# Altium footprint library S100 PCBLib.PcbLib: 16 footprints
Each footprint in its own frame and in the unit in brackets; x right, y up, seen from the top. Pads: shape width x height; smd on the part's side, far side on the other; paste and mask are expansions set on the pad; w line width, h text height; cw(c..) or ccw(c..) is an arc to the next point about the centre after c.
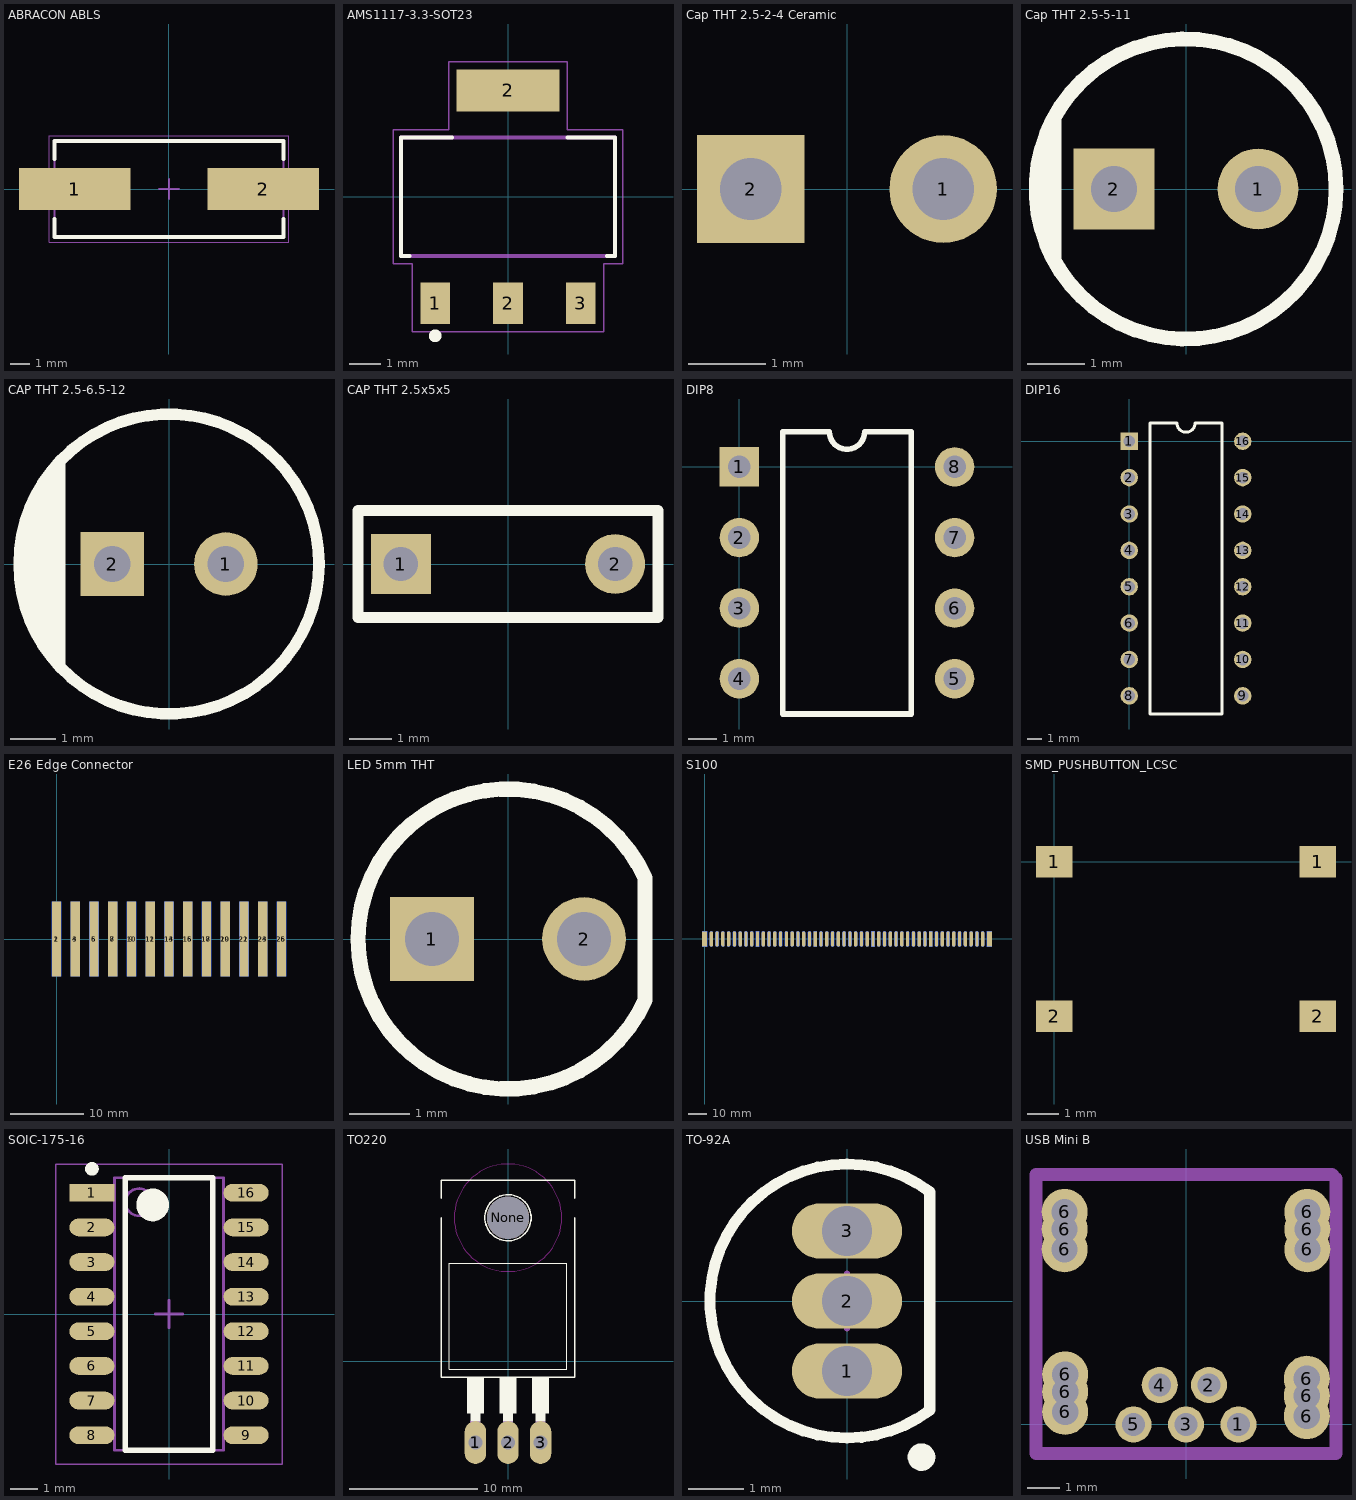
[diagram p0: the footprints below, top view; thin cyan lines are the x and y axes]

## ABRACON ABLS [mm] "Crystal, 2-Leads, Body 4.70x11.40mm, Pitch 8.80mm, IPC Medium Density"
height 4.2
pads (2):
  rect 5.6x2.1 smd: 1(-4.75,0) 2(4.75,0)
Top Overlay:
  lines w0.2: -5.775,-1.5 -5.775,-2.425 5.775,-2.425 5.775,-1.5 ; -5.775,1.5 -5.775,2.425 5.775,2.425 5.775,1.5
Mechanical 13:
  lines w0.1: -5.775,-2.425 -5.775,2.425 5.775,2.425 5.775,-2.425 -5.775,-2.425
Mechanical 15:
  lines w0.05: -6.025,-2.675 -6.025,2.675 6.025,2.675 6.025,-2.675 -6.025,-2.675
  lines w0.1: -0.5,0 0.5,0 ; 0,-0.5 0,0.5
3D body "HC49US SMT Crystal.STEP": height 4.2, standoff 0, extent -6.35,-2.35 6.35,2.35

## AMS1117-3.3-SOT23 [mm]
pads (4):
  rect 0.93x1.31 smd: 1(-2.29,-3.345) 2(0,-3.345) 3(2.29,-3.345)
  rect 3.24x1.31 smd: 2(0,3.345)
Top Overlay:
  circle w0.2: c-2.29,-4.373 r0.1
  lines w0.127: -3.1,-1.86 -3.36,-1.86 -3.36,1.86 -1.76,1.86 ; 1.87,1.86 3.36,1.86 3.36,-1.86 3.11,-1.86
Mechanical 4:
  lines w0.127: -3.36,-1.86 3.36,-1.86 ; -3.36,-1.86 -3.36,1.86 ; -3.36,-1.86 3.36,-1.86 ; -3.36,-1.86 -3.36,1.86 ; -3.36,1.86 3.36,1.86 ; -3.36,1.86 3.36,1.86 ; 3.36,-1.86 3.36,1.86 ; 3.36,-1.86 3.36,1.86
Mechanical 16:
  lines w0.05: -3.61,-2.11 -3.01,-2.11 -3.01,-4.25 3.01,-4.25 3.01,-2.11 3.61,-2.11 3.61,2.11 1.87,2.11 1.87,4.25 -1.87,4.25 -1.87,2.11 -3.61,2.11 -3.61,-2.11

## Cap THT 2.5-2-4 Ceramic [mm]
height 4
pads (2):
  round 1.4 hole 0.8: 1(1.25,0)
  rect 1.4x1.4 hole 0.8: 2(-1.25,0)

## Cap THT 2.5-5-11 [mm] "Capacitor 5mm Radius x 2.5mm lead spacing 11.5mm Height"
height 11.5
pads (2):
  round 1.4 hole 0.8: 1(1.25,0)
  rect 1.4x1.4 hole 0.8: 2(-1.25,0)
Top Overlay:
  circle w0.254: c0,0 r2.6
  region: -2.159,1.333 -2.159,-1.355 -2.413,-1.016 -2.54,0.762
3D body "cpol-v_p2-5_d6-5_h11-5.stp": height 11.51, standoff -3.35, extent -3.255,-3.247 3.25,3.247

## CAP THT 2.5-6.5-12 [mm]
pads (2):
  round 1.4 hole 0.8: 1(1.25,0)
  rect 1.4x1.4 hole 0.8: 2(-1.25,0)
Top Overlay:
  circle w0.254: c0,0 r3.3
  region: -2.032,2.54
  region: -2.286,2.413 -2.286,-2.413 -2.921,-1.778 -2.921,-1.651 -3.048,-1.524 -3.048,-0.889 -3.302,-0.635 -3.302,0.889 -3.048,1.143
3D body "cpol-v_p2-5_d6-5_h11-5.stp": height 11.51, standoff -3.35, extent -3.255,-3.247 3.25,3.247

## CAP THT 2.5x5x5 [mm]
pads (2):
  rect 1.4x1.4 hole 0.8: 1(-2.5,0)
  round 1.4 hole 0.8: 2(2.5,0)
Top Overlay:
  lines w0.254: -3.5,-1.25 3.5,-1.25 3.5,1.25 -3.5,1.25 -3.5,-1.25
3D body: height 6.5, standoff 0.5, extent -3.556,-1.27 3.429,1.27

## DIP8 [mm]
pads (8):
  rect 1.4x1.4 hole 0.8: 1(0,0)
  round 1.4 hole 0.8: 2(0,-2.5) 3(0,-5) 4(0,-7.5) 5(7.62,-7.5) 6(7.62,-5) 7(7.62,-2.5) 8(7.62,0)
Top Overlay:
  lines w0.2: 1.535,-8.75 6.085,-8.75 6.085,1.25 4.435,1.25 cw(c3.81,1.25) 3.185,1.25 1.535,1.25 1.535,-8.75

## DIP16 [mm]
pads (16):
  rect 1.2x1.2 hole 0.8: 1(0,0)
  round 1.2 hole 0.8: 2(0,-2.5) 3(0,-5) 4(0,-7.5) 5(0,-10) 6(0,-12.5) 7(0,-15) 8(0,-17.5) 9(7.8,-17.5) 10(7.8,-15) 11(7.8,-12.5) 12(7.8,-10) 13(7.8,-7.5) 14(7.8,-5) 15(7.8,-2.5) 16(7.8,0)
Top Overlay:
  lines w0.2: 1.435,-18.75 1.435,1.25 3.275,1.25 ccw(c3.9,1.25) 4.525,1.25 6.365,1.25 6.365,-18.75 1.435,-18.75

## E26 Edge Connector [mil] "26 Pin Edge Connector"
pads (26):
  rect 50x400 smd: 1(0,0) 3(100,0) 5(200,0) 7(300,0) 9(400,0) 11(500,0) 13(600,0) 15(700,0) 17(800,0) 19(900,0) 21(1000,0) 23(1100,0) 25(1200,0)
  rect 50x400 smd far side: 2(0,0) 4(100,0) 6(200,0) 8(300,0) 10(400,0) 12(500,0) 14(600,0) 16(700,0) 18(800,0) 20(900,0) 22(1000,0) 24(1100,0) 26(1200,0)
Top Solder:
  rectangle: -88.98,-216.54 1288.98,216.54
Bottom Solder:
  rectangle: -88.98,-216.54 1288.98,216.54

## LED 5mm THT [mil]
pads (2):
  rect 55x55 hole 35.43: 1(-50,0)
  round 55 hole 35.43: 2(50,0)
Top Overlay:
  lines w10: 90.12,-40.01 90.12,40.05 ccw(c0,0) 90.13,-40.01

## S100 [mil]
pads (100):
  rect 110x330 smd: 1(0,0) 50(6165,0)
  oval 70x330 smd: 2(145,0) 3(270,0) 4(395,0) 5(520,0) 6(645,0) 7(770,0) 8(895,0) 9(1020,0) 11(1270,0) 12(1395,0) 13(1520,0) 14(1645,0) 15(1770,0) 16(1895,0) 17(2020,0) 18(2145,0) 19(2270,0) 21(2520,0) 22(2645,0) 23(2770,0) 24(2895,0) 25(3020,0) 26(3145,0) 27(3270,0) 28(3395,0) 29(3520,0) 31(3770,0) 32(3895,0) 33(4020,0) 34(4145,0) 35(4270,0) 36(4395,0) 37(4520,0) 38(4645,0) 39(4770,0) 41(5020,0) 42(5145,0) 43(5270,0) 44(5395,0) 45(5520,0) 46(5645,0) 47(5770,0) 48(5895,0) 49(6020,0)
  rect 70x330 smd: 10(1145,0) 20(2395,0) 30(3645,0) 40(4895,0)
  rect 110x330 smd far side: 51(0,0) 100(6165,0)
  oval 70x330 smd far side: 52(145,0) 53(270,0) 54(395,0) 55(520,0) 56(645,0) 57(770,0) 58(895,0) 59(1020,0) 61(1270,0) 62(1395,0) 63(1520,0) 64(1645,0) 65(1770,0) 66(1895,0) 67(2020,0) 68(2145,0) 69(2270,0) 71(2520,0) 72(2645,0) 73(2770,0) 74(2895,0) 75(3020,0) 76(3145,0) 77(3270,0) 78(3395,0) 79(3520,0) 81(3770,0) 82(3895,0) 83(4020,0) 84(4145,0) 85(4270,0) 86(4395,0) 87(4520,0) 88(4645,0) 89(4770,0) 91(5020,0) 92(5145,0) 93(5270,0) 94(5395,0) 95(5520,0) 96(5645,0) 97(5770,0) 98(5895,0) 99(6020,0)
  rect 70x330 smd far side: 60(1145,0) 70(2395,0) 80(3645,0) 90(4895,0)
Top Solder:
  rectangle: -92.52,-168.11 6253.94,107.48

## SMD_PUSHBUTTON_LCSC [mm]
pads (4):
  rect 1.15x1 smd: 1(0,0) 1(8.35,0) 2(0,-4.9) 2(8.35,-4.9)

## SOIC-175-16 [mm] "SOIC, 16-Leads, Body 9.90x3.90mm, Pitch 1.27mm, IPC Low Density"
height 1.75
pads (16):
  rect 1.65x0.65 smd: 1(-2.825,4.445)
  oval 1.65x0.65 smd: 2(-2.825,3.175) 3(-2.825,1.905) 4(-2.825,0.635) 5(-2.825,-0.635) 6(-2.825,-1.905) 7(-2.825,-3.175) 8(-2.825,-4.445) 9(2.825,-4.445) 10(2.825,-3.175) 11(2.825,-1.905) 12(2.825,-0.635) 13(2.825,0.635) 14(2.825,1.905) 15(2.825,3.175) 16(2.825,4.445)
Top Overlay:
  circle w0.6: c-0.6,4 r0.3
  circle w0.25: c-2.825,5.32 r0.125
  lines w0.2: -1.6,-5 1.6,-5 1.6,5 -1.6,5 -1.6,-5
Top Assembly:
  circle w0.1: c-1.1,4.1 r0.5
  lines w0.1: -2,-5 2,-5 2,5 -2,5 -2,-5
Top Courtyard:
  lines w0.05: -4.15,-5.5 4.15,-5.5 4.15,5.5 -4.15,5.5 -4.15,-5.5
  lines w0.1: -0.5,0 0.5,0 ; 0,-0.5 0,0.5
3D body "SOIC127P600X175-16M.step": height 1.75, standoff 0, extent -3,-5 3,5

## TO220 [mil]
pads (4):
  oval 66x132 hole 44: 1(-100,-250) 2(0,-250) 3(100,-250)
  round 130 hole 130 unplated: None(0,440)
Top Overlay:
  circle w5: c0,440 r71
  region: 75.08,-50 125,-50 125,-160.18 75.08,-160.18
  region: -25.03,-50 25,-50 25,-160.22 -25.03,-160.22
  region: -125.22,-50 -75,-50 -75,-160.28 -125.22,-160.28
  region: -115.05,-160 -85,-160 -85,-185.08 -115.05,-185.08
  region: -15.01,-160 15,-160 15,-185.09 -15.01,-185.09
  region: 85.03,-160 115,-160 115,-185.06 85.03,-185.06
  lines w2: -180,-25 -180,300 180,300 180,-25 -180,-25
  lines w5: -205,440 -205,-50 205,-50 205,440 ; -205,500 -205,555 205,555 205,500
Keep-Out Layer:
  circle w0: c0,440 r165
  circle w0: c0,440 r165
  circle w0: c0,440 r165
  circle w0: c0,440 r165
  circle w0: c0,440 r165
  circle w0: c0,440 r165
Mechanical 4:
  region: 85.1,-185 115,-185 115,-260.31 85.1,-260.31
  region: -15.03,-185 15,-185 15,-260.5 -15.03,-260.5
  region: -115.14,-185 -85,-185 -85,-260.33 -115.14,-260.33
  region: 85.1,-185 115,-185 115,-260.31 85.1,-260.31
  region: -15.03,-185 15,-185 15,-260.5 -15.03,-260.5
  region: -115.14,-185 -85,-185 -85,-260.33 -115.14,-260.33
  text "3" at 75.02,-9.84 h73.82
  text "2" at -25.04,-9.84 h73.82
  text "1" at -125.24,-9.84 h73.82
  text "3" at 75.02,-9.84 h73.82
  text "2" at -25.04,-9.84 h73.82
  text "1" at -125.24,-9.84 h73.82
3D body "TO-220 3pins short V1.stp": height 68.9, standoff -104.33, extent -242.88,-310.34 225,560

## TO-92A [mm] "TO, Flat Index; 3 In-Line, Axial Leads; Body Dia. 4.5mm; Leads 0.51 x 0.48 mm (max)"
height 6.86
pads (3):
  oval 2x1 hole 0.9: 1(0,-1.27) 2(0,0) 3(0,1.27)
Top Overlay:
  circle w0.25: c1.35,-2.83 r0.125
  lines w0.2: 1.5,-1.98 cw(c0,0) 1.5,1.98 1.5,-1.98
Mechanical 13:
  lines w0.1: 1.5,-1.98 cw(c0,0) 1.5,1.98 1.5,-1.98
Mechanical 15:
  lines w0.1: -0.5,0 0.5,0 ; 0,-0.5 0,0.5
3D body: height 6.86, standoff 2.2, extent -2.485,-2.495 1.501,2.495

## USB Mini B [mm]
pads (17):
  round 1.1 hole 0.7: 1(1.6,0) 2(0.7,1.2) 3(0,0) 4(-0.8,1.2) 5(-1.6,0)
  round 1.4 hole 0.8: 6(-3.7,5.334) 6(-3.7,5.95) 6(-3.7,6.477) 6(-3.683,0.381) 6(-3.683,0.997) 6(-3.683,1.524) 6(3.683,0.254) 6(3.683,0.87) 6(3.683,1.397) 6(3.7,5.334) 6(3.7,5.95) 6(3.7,6.477)
Mechanical 1:
  lines w0.4: -4.572,-0.889 -4.572,7.62 4.445,7.62 4.572,7.493 4.572,-0.889 -4.572,-0.889